# EAGLE library part OPI-ZERO-X (library OrangePi0)
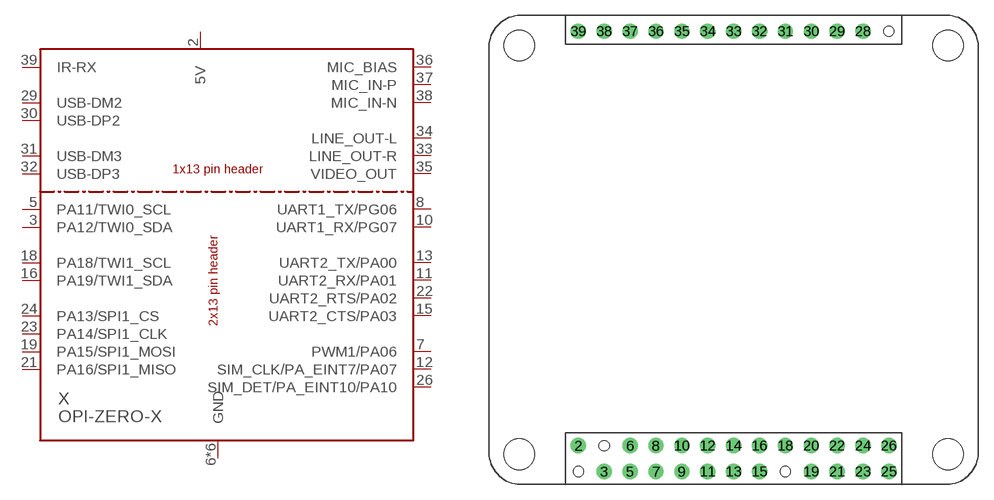
[diagram p1: symbol with the pads of OPI0X; footprint OPI0X]

Designator prefix X

## OPI-ZERO-X  [OPI0X]
2  5V  pwr
3  PA12/TWI0_SDA
5  PA11/TWI0_SCL
6  GND  pwr
7  PWM1/PA06
8  UART1_TX/PG06
9  GND  pwr
10  UART1_RX/PG07
11  UART2_RX/PA01
12  SIM_CLK/PA_EINT7/PA07
13  UART2_TX/PA00
14  GND  pwr
15  UART2_CTS/PA03
16  PA19/TWI1_SDA
18  PA18/TWI1_SCL
19  PA15/SPI1_MOSI
20  GND  pwr
21  PA16/SPI1_MISO
22  UART2_RTS/PA02
23  PA14/SPI1_CLK
24  PA13/SPI1_CS
25  GND  pwr
26  SIM_DET/PA_EINT10/PA10
28  GND  pwr
29  USB-DM2
30  USB-DP2
31  USB-DM3
32  USB-DP3
33  LINE_OUT-R  pas
34  LINE_OUT-L  pas
35  VIDEO_OUT  pas
36  MIC_BIAS  pas
37  MIC_IN-P  pas
38  MIC_IN-N  pas
39  IR-RX  pas

## Footprint OPI0X (pad centres in mm)
drill 1: 2 0,2.54; 3 2.54,0; 5 5.08,0; 6 5.08,2.54; 7 7.62,0; 8 7.62,2.54; 9 10.16,0; 10 10.16,2.54; 11 12.7,0; 12 12.7,2.54; 13 15.24,0; 14 15.24,2.54; 15 17.78,0; 16 17.78,2.54; 18 20.32,2.54; 19 22.86,0; 20 22.86,2.54; 21 25.4,0; 22 25.4,2.54; 23 27.94,0; 24 27.94,2.54; 25 30.48,0; 26 30.48,2.54; 28 27.94,43.18; 29 25.4,43.18; 30 22.86,43.18; 31 20.32,43.18; 32 17.78,43.18; 33 15.24,43.18; 34 12.7,43.18; 35 10.16,43.18; 36 7.62,43.18; 37 5.08,43.18; 38 2.54,43.18; 39 0,43.18
hole 3 at -5.815,1.694
hole 3 at 36.295,1.694
hole 3 at 36.295,41.805
hole 3 at -5.815,41.805
hole 1 at 30.48,43.18
hole 1 at 0,0
hole 1 at 2.54,2.54
hole 1 at 20.32,0